# Altium footprint library Header_254.PcbLib: 78 footprints (part 5 of 9)
Each footprint in its own frame and in the unit in brackets; x right, y up, seen from the top. Pads: shape width x height; smd on the part's side, far side on the other; paste and mask are expansions set on the pad; w line width, h text height; cw(c..) or ccw(c..) is an arc to the next point about the centre after c.
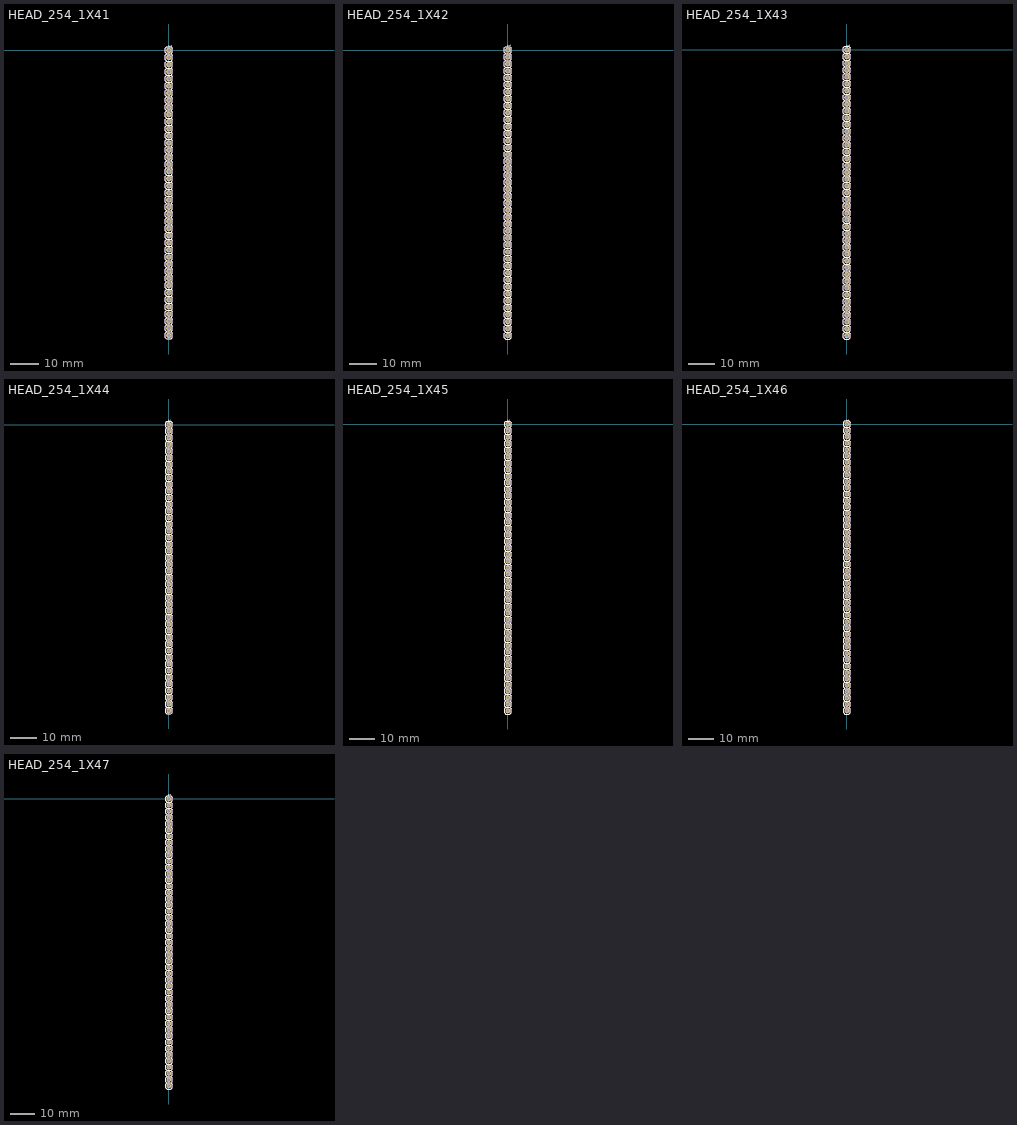
[diagram p4: the footprints below, top view; thin cyan lines are the x and y axes]

## HEAD_254_1X41 [mm] "Header 2.54mm 1x41"
pads (41):
  round 2 hole 1: 1(0,0) 2(0,-2.54) 3(0,-5.08) 4(0,-7.62) 5(0,-10.16) 6(0,-12.7) 7(0,-15.24) 8(0,-17.78) 9(0,-20.32) 10(0,-22.86) 11(0,-25.4) 12(0,-27.94) 13(0,-30.48) 14(0,-33.02) 15(0,-35.56) 16(0,-38.1) 17(0,-40.64) 18(0,-43.18) 19(0,-45.72) 20(0,-48.26) 21(0,-50.8) 22(0,-53.34) 23(0,-55.88) 24(0,-58.42) 25(0,-60.96) 26(0,-63.5) 27(0,-66.04) 28(0,-68.58) 29(0,-71.12) 30(0,-73.66) 31(0,-76.2) 32(0,-78.74) 33(0,-81.28) 34(0,-83.82) 35(0,-86.36) 36(0,-88.9) 37(0,-91.44) 38(0,-93.98) 39(0,-96.52) 40(0,-99.06) 41(0,-101.6)
Top Overlay:
  drawing of 288 lines, arcs and shapes, not listed
  text "1" at -0.642,2.036 h2
Bottom Overlay:
  text "1" at -0.642,1.264 h2
Top Assembly:
  drawing of 288 lines, arcs and shapes, not listed
3D body: height 10, standoff -3, extent -0.35,-101.95 0.35,-101.25
3D body: height 2, standoff 0, extent -1.27,-102.87 1.27,-100.33
3D body: height 10, standoff -3, extent -0.35,-99.41 0.35,-98.71
3D body: height 2, standoff 0, extent -1.27,-100.33 1.27,-97.79
3D body: height 10, standoff -3, extent -0.35,-96.87 0.35,-96.17
3D body: height 2, standoff 0, extent -1.27,-97.79 1.27,-95.25
3D body: height 10, standoff -3, extent -0.35,-94.33 0.35,-93.63
3D body: height 2, standoff 0, extent -1.27,-95.25 1.27,-92.71
3D body: height 10, standoff -3, extent -0.35,-91.79 0.35,-91.09
3D body: height 2, standoff 0, extent -1.27,-92.71 1.27,-90.17
3D body: height 10, standoff -3, extent -0.35,-89.25 0.35,-88.55
3D body: height 2, standoff 0, extent -1.27,-90.17 1.27,-87.63
3D body: height 10, standoff -3, extent -0.35,-86.71 0.35,-86.01
3D body: height 2, standoff 0, extent -1.27,-87.63 1.27,-85.09
3D body: height 10, standoff -3, extent -0.35,-84.17 0.35,-83.47
3D body: height 2, standoff 0, extent -1.27,-85.09 1.27,-82.55
3D body: height 10, standoff -3, extent -0.35,-81.63 0.35,-80.93
3D body: height 2, standoff 0, extent -1.27,-82.55 1.27,-80.01
3D body: height 10, standoff -3, extent -0.35,-79.09 0.35,-78.39
3D body: height 2, standoff 0, extent -1.27,-80.01 1.27,-77.47
3D body: height 10, standoff -3, extent -0.35,-76.55 0.35,-75.85
3D body: height 2, standoff 0, extent -1.27,-77.47 1.27,-74.93
3D body: height 10, standoff -3, extent -0.35,-71.47 0.35,-70.77
3D body: height 2, standoff 0, extent -1.27,-72.39 1.27,-69.85
3D body: height 10, standoff -3, extent -0.35,-68.93 0.35,-68.23
3D body: height 2, standoff 0, extent -1.27,-69.85 1.27,-67.31
3D body: height 10, standoff -3, extent -0.35,-61.31 0.35,-60.61
3D body: height 2, standoff 0, extent -1.27,-62.23 1.27,-59.69
3D body: height 10, standoff -3, extent -0.35,-56.23 0.35,-55.53
3D body: height 2, standoff 0, extent -1.27,-57.15 1.27,-54.61
3D body: height 10, standoff -3, extent -0.35,-53.69 0.35,-52.99
3D body: height 2, standoff 0, extent -1.27,-54.61 1.27,-52.07
3D body: height 10, standoff -3, extent -0.35,-51.15 0.35,-50.45
3D body: height 2, standoff 0, extent -1.27,-52.07 1.27,-49.53
3D body: height 10, standoff -3, extent -0.35,-46.07 0.35,-45.37
3D body: height 2, standoff 0, extent -1.27,-46.99 1.27,-44.45
3D body: height 10, standoff -3, extent -0.35,-40.99 0.35,-40.29
3D body: height 2, standoff 0, extent -1.27,-41.91 1.27,-39.37
3D body: height 10, standoff -3, extent -0.35,-33.37 0.35,-32.67
3D body: height 2, standoff 0, extent -1.27,-34.29 1.27,-31.75
3D body: height 10, standoff -3, extent -0.35,-23.21 0.35,-22.51
3D body: height 2, standoff 0, extent -1.27,-24.13 1.27,-21.59
3D body: height 10, standoff -3, extent -0.35,-18.13 0.35,-17.43
3D body: height 2, standoff 0, extent -1.27,-19.05 1.27,-16.51
3D body: height 10, standoff -3, extent -0.35,-15.59 0.35,-14.89
3D body: height 2, standoff 0, extent -1.27,-16.51 1.27,-13.97
3D body: height 10, standoff -3, extent -0.35,-13.05 0.35,-12.35
3D body: height 2, standoff 0, extent -1.27,-13.97 1.27,-11.43
3D body: height 10, standoff -3, extent -0.35,-10.51 0.35,-9.81
3D body: height 2, standoff 0, extent -1.27,-11.43 1.27,-8.89
3D body: height 10, standoff -3, extent -0.35,-5.43 0.35,-4.73
3D body: height 2, standoff 0, extent -1.27,-6.35 1.27,-3.81
3D body: height 10, standoff -3, extent -0.35,-2.89 0.35,-2.19
3D body: height 2, standoff 0, extent -1.27,-3.81 1.27,-1.27
3D body: height 10, standoff -3, extent -0.35,-0.35 0.35,0.35
3D body: height 2, standoff 0, extent -1.27,-1.27 1.27,1.27
3D body: height 10, standoff -3, extent -0.35,-7.97 0.35,-7.27
3D body: height 2, standoff 0, extent -1.27,-8.89 1.27,-6.35
3D body: height 10, standoff -3, extent -0.35,-20.67 0.35,-19.97
3D body: height 2, standoff 0, extent -1.27,-21.59 1.27,-19.05
3D body: height 10, standoff -3, extent -0.35,-25.75 0.35,-25.05
3D body: height 2, standoff 0, extent -1.27,-26.67 1.27,-24.13
3D body: height 10, standoff -3, extent -0.35,-28.29 0.35,-27.59
3D body: height 2, standoff 0, extent -1.27,-29.21 1.27,-26.67
3D body: height 10, standoff -3, extent -0.35,-30.83 0.35,-30.13
3D body: height 2, standoff 0, extent -1.27,-31.75 1.27,-29.21
3D body: height 10, standoff -3, extent -0.35,-35.91 0.35,-35.21
3D body: height 2, standoff 0, extent -1.27,-36.83 1.27,-34.29
3D body: height 10, standoff -3, extent -0.35,-38.45 0.35,-37.75
3D body: height 2, standoff 0, extent -1.27,-39.37 1.27,-36.83
3D body: height 10, standoff -3, extent -0.35,-43.53 0.35,-42.83
3D body: height 2, standoff 0, extent -1.27,-44.45 1.27,-41.91
3D body: height 10, standoff -3, extent -0.35,-48.61 0.35,-47.91
3D body: height 2, standoff 0, extent -1.27,-49.53 1.27,-46.99
3D body: height 10, standoff -3, extent -0.35,-58.77 0.35,-58.07
3D body: height 2, standoff 0, extent -1.27,-59.69 1.27,-57.15
3D body: height 10, standoff -3, extent -0.35,-63.85 0.35,-63.15
3D body: height 2, standoff 0, extent -1.27,-64.77 1.27,-62.23
3D body: height 10, standoff -3, extent -0.35,-66.39 0.35,-65.69
3D body: height 2, standoff 0, extent -1.27,-67.31 1.27,-64.77
3D body: height 10, standoff -3, extent -0.35,-74.01 0.35,-73.31
3D body: height 2, standoff 0, extent -1.27,-74.93 1.27,-72.39

## HEAD_254_1X42 [mm] "Header 2.54mm 1x42"
pads (42):
  round 2 hole 1: 1(0,0) 2(0,-2.54) 3(0,-5.08) 4(0,-7.62) 5(0,-10.16) 6(0,-12.7) 7(0,-15.24) 8(0,-17.78) 9(0,-20.32) 10(0,-22.86) 11(0,-25.4) 12(0,-27.94) 13(0,-30.48) 14(0,-33.02) 15(0,-35.56) 16(0,-38.1) 17(0,-40.64) 18(0,-43.18) 19(0,-45.72) 20(0,-48.26) 21(0,-50.8) 22(0,-53.34) 23(0,-55.88) 24(0,-58.42) 25(0,-60.96) 26(0,-63.5) 27(0,-66.04) 28(0,-68.58) 29(0,-71.12) 30(0,-73.66) 31(0,-76.2) 32(0,-78.74) 33(0,-81.28) 34(0,-83.82) 35(0,-86.36) 36(0,-88.9) 37(0,-91.44) 38(0,-93.98) 39(0,-96.52) 40(0,-99.06) 41(0,-101.6) 42(0,-104.14)
Top Overlay:
  drawing of 295 lines, arcs and shapes, not listed
  text "1" at -0.642,2.036 h2
Bottom Overlay:
  text "1" at -0.642,1.264 h2
Top Assembly:
  drawing of 295 lines, arcs and shapes, not listed
3D body: height 2, standoff 0, extent -1.27,-74.93 1.27,-72.39
3D body: height 10, standoff -3, extent -0.35,-74.01 0.35,-73.31
3D body: height 2, standoff 0, extent -1.27,-67.31 1.27,-64.77
3D body: height 10, standoff -3, extent -0.35,-66.39 0.35,-65.69
3D body: height 2, standoff 0, extent -1.27,-64.77 1.27,-62.23
3D body: height 10, standoff -3, extent -0.35,-63.85 0.35,-63.15
3D body: height 2, standoff 0, extent -1.27,-59.69 1.27,-57.15
3D body: height 10, standoff -3, extent -0.35,-58.77 0.35,-58.07
3D body: height 2, standoff 0, extent -1.27,-49.53 1.27,-46.99
3D body: height 10, standoff -3, extent -0.35,-48.61 0.35,-47.91
3D body: height 2, standoff 0, extent -1.27,-44.45 1.27,-41.91
3D body: height 10, standoff -3, extent -0.35,-43.53 0.35,-42.83
3D body: height 2, standoff 0, extent -1.27,-39.37 1.27,-36.83
3D body: height 10, standoff -3, extent -0.35,-38.45 0.35,-37.75
3D body: height 2, standoff 0, extent -1.27,-36.83 1.27,-34.29
3D body: height 10, standoff -3, extent -0.35,-35.91 0.35,-35.21
3D body: height 2, standoff 0, extent -1.27,-31.75 1.27,-29.21
3D body: height 10, standoff -3, extent -0.35,-30.83 0.35,-30.13
3D body: height 2, standoff 0, extent -1.27,-29.21 1.27,-26.67
3D body: height 10, standoff -3, extent -0.35,-28.29 0.35,-27.59
3D body: height 2, standoff 0, extent -1.27,-26.67 1.27,-24.13
3D body: height 10, standoff -3, extent -0.35,-25.75 0.35,-25.05
3D body: height 2, standoff 0, extent -1.27,-21.59 1.27,-19.05
3D body: height 10, standoff -3, extent -0.35,-20.67 0.35,-19.97
3D body: height 2, standoff 0, extent -1.27,-8.89 1.27,-6.35
3D body: height 10, standoff -3, extent -0.35,-7.97 0.35,-7.27
3D body: height 2, standoff 0, extent -1.27,-1.27 1.27,1.27
3D body: height 10, standoff -3, extent -0.35,-0.35 0.35,0.35
3D body: height 2, standoff 0, extent -1.27,-3.81 1.27,-1.27
3D body: height 10, standoff -3, extent -0.35,-2.89 0.35,-2.19
3D body: height 2, standoff 0, extent -1.27,-6.35 1.27,-3.81
3D body: height 10, standoff -3, extent -0.35,-5.43 0.35,-4.73
3D body: height 2, standoff 0, extent -1.27,-11.43 1.27,-8.89
3D body: height 10, standoff -3, extent -0.35,-10.51 0.35,-9.81
3D body: height 2, standoff 0, extent -1.27,-13.97 1.27,-11.43
3D body: height 10, standoff -3, extent -0.35,-13.05 0.35,-12.35
3D body: height 2, standoff 0, extent -1.27,-16.51 1.27,-13.97
3D body: height 10, standoff -3, extent -0.35,-15.59 0.35,-14.89
3D body: height 2, standoff 0, extent -1.27,-19.05 1.27,-16.51
3D body: height 10, standoff -3, extent -0.35,-18.13 0.35,-17.43
3D body: height 2, standoff 0, extent -1.27,-24.13 1.27,-21.59
3D body: height 10, standoff -3, extent -0.35,-23.21 0.35,-22.51
3D body: height 2, standoff 0, extent -1.27,-34.29 1.27,-31.75
3D body: height 10, standoff -3, extent -0.35,-33.37 0.35,-32.67
3D body: height 2, standoff 0, extent -1.27,-41.91 1.27,-39.37
3D body: height 10, standoff -3, extent -0.35,-40.99 0.35,-40.29
3D body: height 2, standoff 0, extent -1.27,-46.99 1.27,-44.45
3D body: height 10, standoff -3, extent -0.35,-46.07 0.35,-45.37
3D body: height 2, standoff 0, extent -1.27,-52.07 1.27,-49.53
3D body: height 10, standoff -3, extent -0.35,-51.15 0.35,-50.45
3D body: height 2, standoff 0, extent -1.27,-54.61 1.27,-52.07
3D body: height 10, standoff -3, extent -0.35,-53.69 0.35,-52.99
3D body: height 2, standoff 0, extent -1.27,-57.15 1.27,-54.61
3D body: height 10, standoff -3, extent -0.35,-56.23 0.35,-55.53
3D body: height 2, standoff 0, extent -1.27,-62.23 1.27,-59.69
3D body: height 10, standoff -3, extent -0.35,-61.31 0.35,-60.61
3D body: height 2, standoff 0, extent -1.27,-69.85 1.27,-67.31
3D body: height 10, standoff -3, extent -0.35,-68.93 0.35,-68.23
3D body: height 2, standoff 0, extent -1.27,-72.39 1.27,-69.85
3D body: height 10, standoff -3, extent -0.35,-71.47 0.35,-70.77
3D body: height 2, standoff 0, extent -1.27,-77.47 1.27,-74.93
3D body: height 10, standoff -3, extent -0.35,-76.55 0.35,-75.85
3D body: height 2, standoff 0, extent -1.27,-80.01 1.27,-77.47
3D body: height 10, standoff -3, extent -0.35,-79.09 0.35,-78.39
3D body: height 2, standoff 0, extent -1.27,-82.55 1.27,-80.01
3D body: height 10, standoff -3, extent -0.35,-81.63 0.35,-80.93
3D body: height 2, standoff 0, extent -1.27,-85.09 1.27,-82.55
3D body: height 10, standoff -3, extent -0.35,-84.17 0.35,-83.47
3D body: height 2, standoff 0, extent -1.27,-87.63 1.27,-85.09
3D body: height 10, standoff -3, extent -0.35,-86.71 0.35,-86.01
3D body: height 2, standoff 0, extent -1.27,-90.17 1.27,-87.63
3D body: height 10, standoff -3, extent -0.35,-89.25 0.35,-88.55
3D body: height 2, standoff 0, extent -1.27,-92.71 1.27,-90.17
3D body: height 10, standoff -3, extent -0.35,-91.79 0.35,-91.09
3D body: height 2, standoff 0, extent -1.27,-95.25 1.27,-92.71
3D body: height 10, standoff -3, extent -0.35,-94.33 0.35,-93.63
3D body: height 2, standoff 0, extent -1.27,-97.79 1.27,-95.25
3D body: height 10, standoff -3, extent -0.35,-96.87 0.35,-96.17
3D body: height 2, standoff 0, extent -1.27,-100.33 1.27,-97.79
3D body: height 10, standoff -3, extent -0.35,-99.41 0.35,-98.71
3D body: height 2, standoff 0, extent -1.27,-102.87 1.27,-100.33
3D body: height 10, standoff -3, extent -0.35,-101.95 0.35,-101.25
3D body: height 2, standoff 0, extent -1.27,-105.41 1.27,-102.87
3D body: height 10, standoff -3, extent -0.35,-104.49 0.35,-103.79

## HEAD_254_1X43 [mm] "Header 2.54mm 1x43"
pads (43):
  round 2 hole 1: 1(0,0) 2(0,-2.54) 3(0,-5.08) 4(0,-7.62) 5(0,-10.16) 6(0,-12.7) 7(0,-15.24) 8(0,-17.78) 9(0,-20.32) 10(0,-22.86) 11(0,-25.4) 12(0,-27.94) 13(0,-30.48) 14(0,-33.02) 15(0,-35.56) 16(0,-38.1) 17(0,-40.64) 18(0,-43.18) 19(0,-45.72) 20(0,-48.26) 21(0,-50.8) 22(0,-53.34) 23(0,-55.88) 24(0,-58.42) 25(0,-60.96) 26(0,-63.5) 27(0,-66.04) 28(0,-68.58) 29(0,-71.12) 30(0,-73.66) 31(0,-76.2) 32(0,-78.74) 33(0,-81.28) 34(0,-83.82) 35(0,-86.36) 36(0,-88.9) 37(0,-91.44) 38(0,-93.98) 39(0,-96.52) 40(0,-99.06) 41(0,-101.6) 42(0,-104.14) 43(0,-106.68)
Top Overlay:
  drawing of 302 lines, arcs and shapes, not listed
  text "1" at -0.642,2.036 h2
Bottom Overlay:
  text "1" at -0.642,1.264 h2
Top Assembly:
  drawing of 302 lines, arcs and shapes, not listed
3D body: height 2, standoff 0, extent -1.27,-74.93 1.27,-72.39
3D body: height 10, standoff -3, extent -0.35,-74.01 0.35,-73.31
3D body: height 2, standoff 0, extent -1.27,-67.31 1.27,-64.77
3D body: height 10, standoff -3, extent -0.35,-66.39 0.35,-65.69
3D body: height 2, standoff 0, extent -1.27,-64.77 1.27,-62.23
3D body: height 10, standoff -3, extent -0.35,-63.85 0.35,-63.15
3D body: height 2, standoff 0, extent -1.27,-59.69 1.27,-57.15
3D body: height 10, standoff -3, extent -0.35,-58.77 0.35,-58.07
3D body: height 2, standoff 0, extent -1.27,-49.53 1.27,-46.99
3D body: height 10, standoff -3, extent -0.35,-48.61 0.35,-47.91
3D body: height 2, standoff 0, extent -1.27,-44.45 1.27,-41.91
3D body: height 10, standoff -3, extent -0.35,-43.53 0.35,-42.83
3D body: height 2, standoff 0, extent -1.27,-39.37 1.27,-36.83
3D body: height 10, standoff -3, extent -0.35,-38.45 0.35,-37.75
3D body: height 2, standoff 0, extent -1.27,-36.83 1.27,-34.29
3D body: height 10, standoff -3, extent -0.35,-35.91 0.35,-35.21
3D body: height 2, standoff 0, extent -1.27,-31.75 1.27,-29.21
3D body: height 10, standoff -3, extent -0.35,-30.83 0.35,-30.13
3D body: height 2, standoff 0, extent -1.27,-29.21 1.27,-26.67
3D body: height 10, standoff -3, extent -0.35,-28.29 0.35,-27.59
3D body: height 2, standoff 0, extent -1.27,-26.67 1.27,-24.13
3D body: height 10, standoff -3, extent -0.35,-25.75 0.35,-25.05
3D body: height 2, standoff 0, extent -1.27,-21.59 1.27,-19.05
3D body: height 10, standoff -3, extent -0.35,-20.67 0.35,-19.97
3D body: height 2, standoff 0, extent -1.27,-8.89 1.27,-6.35
3D body: height 10, standoff -3, extent -0.35,-7.97 0.35,-7.27
3D body: height 2, standoff 0, extent -1.27,-1.27 1.27,1.27
3D body: height 10, standoff -3, extent -0.35,-0.35 0.35,0.35
3D body: height 2, standoff 0, extent -1.27,-3.81 1.27,-1.27
3D body: height 10, standoff -3, extent -0.35,-2.89 0.35,-2.19
3D body: height 2, standoff 0, extent -1.27,-6.35 1.27,-3.81
3D body: height 10, standoff -3, extent -0.35,-5.43 0.35,-4.73
3D body: height 2, standoff 0, extent -1.27,-11.43 1.27,-8.89
3D body: height 10, standoff -3, extent -0.35,-10.51 0.35,-9.81
3D body: height 2, standoff 0, extent -1.27,-13.97 1.27,-11.43
3D body: height 10, standoff -3, extent -0.35,-13.05 0.35,-12.35
3D body: height 2, standoff 0, extent -1.27,-16.51 1.27,-13.97
3D body: height 10, standoff -3, extent -0.35,-15.59 0.35,-14.89
3D body: height 2, standoff 0, extent -1.27,-19.05 1.27,-16.51
3D body: height 10, standoff -3, extent -0.35,-18.13 0.35,-17.43
3D body: height 2, standoff 0, extent -1.27,-24.13 1.27,-21.59
3D body: height 10, standoff -3, extent -0.35,-23.21 0.35,-22.51
3D body: height 2, standoff 0, extent -1.27,-34.29 1.27,-31.75
3D body: height 10, standoff -3, extent -0.35,-33.37 0.35,-32.67
3D body: height 2, standoff 0, extent -1.27,-41.91 1.27,-39.37
3D body: height 10, standoff -3, extent -0.35,-40.99 0.35,-40.29
3D body: height 2, standoff 0, extent -1.27,-46.99 1.27,-44.45
3D body: height 10, standoff -3, extent -0.35,-46.07 0.35,-45.37
3D body: height 2, standoff 0, extent -1.27,-52.07 1.27,-49.53
3D body: height 10, standoff -3, extent -0.35,-51.15 0.35,-50.45
3D body: height 2, standoff 0, extent -1.27,-54.61 1.27,-52.07
3D body: height 10, standoff -3, extent -0.35,-53.69 0.35,-52.99
3D body: height 2, standoff 0, extent -1.27,-57.15 1.27,-54.61
3D body: height 10, standoff -3, extent -0.35,-56.23 0.35,-55.53
3D body: height 2, standoff 0, extent -1.27,-62.23 1.27,-59.69
3D body: height 10, standoff -3, extent -0.35,-61.31 0.35,-60.61
3D body: height 2, standoff 0, extent -1.27,-69.85 1.27,-67.31
3D body: height 10, standoff -3, extent -0.35,-68.93 0.35,-68.23
3D body: height 2, standoff 0, extent -1.27,-72.39 1.27,-69.85
3D body: height 10, standoff -3, extent -0.35,-71.47 0.35,-70.77
3D body: height 2, standoff 0, extent -1.27,-77.47 1.27,-74.93
3D body: height 10, standoff -3, extent -0.35,-76.55 0.35,-75.85
3D body: height 2, standoff 0, extent -1.27,-80.01 1.27,-77.47
3D body: height 10, standoff -3, extent -0.35,-79.09 0.35,-78.39
3D body: height 2, standoff 0, extent -1.27,-82.55 1.27,-80.01
3D body: height 10, standoff -3, extent -0.35,-81.63 0.35,-80.93
3D body: height 2, standoff 0, extent -1.27,-85.09 1.27,-82.55
3D body: height 10, standoff -3, extent -0.35,-84.17 0.35,-83.47
3D body: height 2, standoff 0, extent -1.27,-87.63 1.27,-85.09
3D body: height 10, standoff -3, extent -0.35,-86.71 0.35,-86.01
3D body: height 2, standoff 0, extent -1.27,-90.17 1.27,-87.63
3D body: height 10, standoff -3, extent -0.35,-89.25 0.35,-88.55
3D body: height 2, standoff 0, extent -1.27,-92.71 1.27,-90.17
3D body: height 10, standoff -3, extent -0.35,-91.79 0.35,-91.09
3D body: height 2, standoff 0, extent -1.27,-95.25 1.27,-92.71
3D body: height 10, standoff -3, extent -0.35,-94.33 0.35,-93.63
3D body: height 2, standoff 0, extent -1.27,-97.79 1.27,-95.25
3D body: height 10, standoff -3, extent -0.35,-96.87 0.35,-96.17
3D body: height 2, standoff 0, extent -1.27,-100.33 1.27,-97.79
3D body: height 10, standoff -3, extent -0.35,-99.41 0.35,-98.71
3D body: height 2, standoff 0, extent -1.27,-102.87 1.27,-100.33
3D body: height 10, standoff -3, extent -0.35,-101.95 0.35,-101.25
3D body: height 2, standoff 0, extent -1.27,-105.41 1.27,-102.87
3D body: height 10, standoff -3, extent -0.35,-104.49 0.35,-103.79
3D body: height 2, standoff 0, extent -1.27,-107.95 1.27,-105.41
3D body: height 10, standoff -3, extent -0.35,-107.03 0.35,-106.33

## HEAD_254_1X44 [mm] "Header 2.54mm 1x44"
pads (44):
  round 2 hole 1: 1(0,0) 2(0,-2.54) 3(0,-5.08) 4(0,-7.62) 5(0,-10.16) 6(0,-12.7) 7(0,-15.24) 8(0,-17.78) 9(0,-20.32) 10(0,-22.86) 11(0,-25.4) 12(0,-27.94) 13(0,-30.48) 14(0,-33.02) 15(0,-35.56) 16(0,-38.1) 17(0,-40.64) 18(0,-43.18) 19(0,-45.72) 20(0,-48.26) 21(0,-50.8) 22(0,-53.34) 23(0,-55.88) 24(0,-58.42) 25(0,-60.96) 26(0,-63.5) 27(0,-66.04) 28(0,-68.58) 29(0,-71.12) 30(0,-73.66) 31(0,-76.2) 32(0,-78.74) 33(0,-81.28) 34(0,-83.82) 35(0,-86.36) 36(0,-88.9) 37(0,-91.44) 38(0,-93.98) 39(0,-96.52) 40(0,-99.06) 41(0,-101.6) 42(0,-104.14) 43(0,-106.68) 44(0,-109.22)
Top Overlay:
  drawing of 309 lines, arcs and shapes, not listed
  text "1" at -0.642,2.036 h2
Bottom Overlay:
  text "1" at -0.642,1.264 h2
Top Assembly:
  drawing of 309 lines, arcs and shapes, not listed
3D body: height 10, standoff -3, extent -0.35,-109.57 0.35,-108.87
3D body: height 2, standoff 0, extent -1.27,-110.49 1.27,-107.95
3D body: height 10, standoff -3, extent -0.35,-107.03 0.35,-106.33
3D body: height 2, standoff 0, extent -1.27,-107.95 1.27,-105.41
3D body: height 10, standoff -3, extent -0.35,-104.49 0.35,-103.79
3D body: height 2, standoff 0, extent -1.27,-105.41 1.27,-102.87
3D body: height 10, standoff -3, extent -0.35,-101.95 0.35,-101.25
3D body: height 2, standoff 0, extent -1.27,-102.87 1.27,-100.33
3D body: height 10, standoff -3, extent -0.35,-99.41 0.35,-98.71
3D body: height 2, standoff 0, extent -1.27,-100.33 1.27,-97.79
3D body: height 10, standoff -3, extent -0.35,-96.87 0.35,-96.17
3D body: height 2, standoff 0, extent -1.27,-97.79 1.27,-95.25
3D body: height 10, standoff -3, extent -0.35,-94.33 0.35,-93.63
3D body: height 2, standoff 0, extent -1.27,-95.25 1.27,-92.71
3D body: height 10, standoff -3, extent -0.35,-91.79 0.35,-91.09
3D body: height 2, standoff 0, extent -1.27,-92.71 1.27,-90.17
3D body: height 10, standoff -3, extent -0.35,-89.25 0.35,-88.55
3D body: height 2, standoff 0, extent -1.27,-90.17 1.27,-87.63
3D body: height 10, standoff -3, extent -0.35,-86.71 0.35,-86.01
3D body: height 2, standoff 0, extent -1.27,-87.63 1.27,-85.09
3D body: height 10, standoff -3, extent -0.35,-84.17 0.35,-83.47
3D body: height 2, standoff 0, extent -1.27,-85.09 1.27,-82.55
3D body: height 10, standoff -3, extent -0.35,-81.63 0.35,-80.93
3D body: height 2, standoff 0, extent -1.27,-82.55 1.27,-80.01
3D body: height 10, standoff -3, extent -0.35,-79.09 0.35,-78.39
3D body: height 2, standoff 0, extent -1.27,-80.01 1.27,-77.47
3D body: height 10, standoff -3, extent -0.35,-76.55 0.35,-75.85
3D body: height 2, standoff 0, extent -1.27,-77.47 1.27,-74.93
3D body: height 10, standoff -3, extent -0.35,-71.47 0.35,-70.77
3D body: height 2, standoff 0, extent -1.27,-72.39 1.27,-69.85
3D body: height 10, standoff -3, extent -0.35,-68.93 0.35,-68.23
3D body: height 2, standoff 0, extent -1.27,-69.85 1.27,-67.31
3D body: height 10, standoff -3, extent -0.35,-61.31 0.35,-60.61
3D body: height 2, standoff 0, extent -1.27,-62.23 1.27,-59.69
3D body: height 10, standoff -3, extent -0.35,-56.23 0.35,-55.53
3D body: height 2, standoff 0, extent -1.27,-57.15 1.27,-54.61
3D body: height 10, standoff -3, extent -0.35,-53.69 0.35,-52.99
3D body: height 2, standoff 0, extent -1.27,-54.61 1.27,-52.07
3D body: height 10, standoff -3, extent -0.35,-51.15 0.35,-50.45
3D body: height 2, standoff 0, extent -1.27,-52.07 1.27,-49.53
3D body: height 10, standoff -3, extent -0.35,-46.07 0.35,-45.37
3D body: height 2, standoff 0, extent -1.27,-46.99 1.27,-44.45
3D body: height 10, standoff -3, extent -0.35,-40.99 0.35,-40.29
3D body: height 2, standoff 0, extent -1.27,-41.91 1.27,-39.37
3D body: height 10, standoff -3, extent -0.35,-33.37 0.35,-32.67
3D body: height 2, standoff 0, extent -1.27,-34.29 1.27,-31.75
3D body: height 10, standoff -3, extent -0.35,-23.21 0.35,-22.51
3D body: height 2, standoff 0, extent -1.27,-24.13 1.27,-21.59
3D body: height 10, standoff -3, extent -0.35,-18.13 0.35,-17.43
3D body: height 2, standoff 0, extent -1.27,-19.05 1.27,-16.51
3D body: height 10, standoff -3, extent -0.35,-15.59 0.35,-14.89
3D body: height 2, standoff 0, extent -1.27,-16.51 1.27,-13.97
3D body: height 10, standoff -3, extent -0.35,-13.05 0.35,-12.35
3D body: height 2, standoff 0, extent -1.27,-13.97 1.27,-11.43
3D body: height 10, standoff -3, extent -0.35,-10.51 0.35,-9.81
3D body: height 2, standoff 0, extent -1.27,-11.43 1.27,-8.89
3D body: height 10, standoff -3, extent -0.35,-5.43 0.35,-4.73
3D body: height 2, standoff 0, extent -1.27,-6.35 1.27,-3.81
3D body: height 10, standoff -3, extent -0.35,-2.89 0.35,-2.19
3D body: height 2, standoff 0, extent -1.27,-3.81 1.27,-1.27
3D body: height 10, standoff -3, extent -0.35,-0.35 0.35,0.35
3D body: height 2, standoff 0, extent -1.27,-1.27 1.27,1.27
3D body: height 10, standoff -3, extent -0.35,-7.97 0.35,-7.27
3D body: height 2, standoff 0, extent -1.27,-8.89 1.27,-6.35
3D body: height 10, standoff -3, extent -0.35,-20.67 0.35,-19.97
3D body: height 2, standoff 0, extent -1.27,-21.59 1.27,-19.05
3D body: height 10, standoff -3, extent -0.35,-25.75 0.35,-25.05
3D body: height 2, standoff 0, extent -1.27,-26.67 1.27,-24.13
3D body: height 10, standoff -3, extent -0.35,-28.29 0.35,-27.59
3D body: height 2, standoff 0, extent -1.27,-29.21 1.27,-26.67
3D body: height 10, standoff -3, extent -0.35,-30.83 0.35,-30.13
3D body: height 2, standoff 0, extent -1.27,-31.75 1.27,-29.21
3D body: height 10, standoff -3, extent -0.35,-35.91 0.35,-35.21
3D body: height 2, standoff 0, extent -1.27,-36.83 1.27,-34.29
3D body: height 10, standoff -3, extent -0.35,-38.45 0.35,-37.75
3D body: height 2, standoff 0, extent -1.27,-39.37 1.27,-36.83
3D body: height 10, standoff -3, extent -0.35,-43.53 0.35,-42.83
3D body: height 2, standoff 0, extent -1.27,-44.45 1.27,-41.91
3D body: height 10, standoff -3, extent -0.35,-48.61 0.35,-47.91
3D body: height 2, standoff 0, extent -1.27,-49.53 1.27,-46.99
3D body: height 10, standoff -3, extent -0.35,-58.77 0.35,-58.07
3D body: height 2, standoff 0, extent -1.27,-59.69 1.27,-57.15
3D body: height 10, standoff -3, extent -0.35,-63.85 0.35,-63.15
3D body: height 2, standoff 0, extent -1.27,-64.77 1.27,-62.23
3D body: height 10, standoff -3, extent -0.35,-66.39 0.35,-65.69
3D body: height 2, standoff 0, extent -1.27,-67.31 1.27,-64.77
3D body: height 10, standoff -3, extent -0.35,-74.01 0.35,-73.31
3D body: height 2, standoff 0, extent -1.27,-74.93 1.27,-72.39

## HEAD_254_1X45 [mm] "Header 2.54mm 1x45"
pads (45):
  round 2 hole 1: 1(0,0) 2(0,-2.54) 3(0,-5.08) 4(0,-7.62) 5(0,-10.16) 6(0,-12.7) 7(0,-15.24) 8(0,-17.78) 9(0,-20.32) 10(0,-22.86) 11(0,-25.4) 12(0,-27.94) 13(0,-30.48) 14(0,-33.02) 15(0,-35.56) 16(0,-38.1) 17(0,-40.64) 18(0,-43.18) 19(0,-45.72) 20(0,-48.26) 21(0,-50.8) 22(0,-53.34) 23(0,-55.88) 24(0,-58.42) 25(0,-60.96) 26(0,-63.5) 27(0,-66.04) 28(0,-68.58) 29(0,-71.12) 30(0,-73.66) 31(0,-76.2) 32(0,-78.74) 33(0,-81.28) 34(0,-83.82) 35(0,-86.36) 36(0,-88.9) 37(0,-91.44) 38(0,-93.98) 39(0,-96.52) 40(0,-99.06) 41(0,-101.6) 42(0,-104.14) 43(0,-106.68) 44(0,-109.22) 45(0,-111.76)
Top Overlay:
  drawing of 316 lines, arcs and shapes, not listed
  text "1" at -0.642,2.036 h2
Bottom Overlay:
  text "1" at -0.642,1.264 h2
Top Assembly:
  drawing of 316 lines, arcs and shapes, not listed
3D body: height 10, standoff -3, extent -0.35,-112.11 0.35,-111.41
3D body: height 2, standoff 0, extent -1.27,-113.03 1.27,-110.49
3D body: height 10, standoff -3, extent -0.35,-109.57 0.35,-108.87
3D body: height 2, standoff 0, extent -1.27,-110.49 1.27,-107.95
3D body: height 10, standoff -3, extent -0.35,-107.03 0.35,-106.33
3D body: height 2, standoff 0, extent -1.27,-107.95 1.27,-105.41
3D body: height 10, standoff -3, extent -0.35,-104.49 0.35,-103.79
3D body: height 2, standoff 0, extent -1.27,-105.41 1.27,-102.87
3D body: height 10, standoff -3, extent -0.35,-101.95 0.35,-101.25
3D body: height 2, standoff 0, extent -1.27,-102.87 1.27,-100.33
3D body: height 10, standoff -3, extent -0.35,-99.41 0.35,-98.71
3D body: height 2, standoff 0, extent -1.27,-100.33 1.27,-97.79
3D body: height 10, standoff -3, extent -0.35,-96.87 0.35,-96.17
3D body: height 2, standoff 0, extent -1.27,-97.79 1.27,-95.25
3D body: height 10, standoff -3, extent -0.35,-94.33 0.35,-93.63
3D body: height 2, standoff 0, extent -1.27,-95.25 1.27,-92.71
3D body: height 10, standoff -3, extent -0.35,-91.79 0.35,-91.09
3D body: height 2, standoff 0, extent -1.27,-92.71 1.27,-90.17
3D body: height 10, standoff -3, extent -0.35,-89.25 0.35,-88.55
3D body: height 2, standoff 0, extent -1.27,-90.17 1.27,-87.63
3D body: height 10, standoff -3, extent -0.35,-86.71 0.35,-86.01
3D body: height 2, standoff 0, extent -1.27,-87.63 1.27,-85.09
3D body: height 10, standoff -3, extent -0.35,-84.17 0.35,-83.47
3D body: height 2, standoff 0, extent -1.27,-85.09 1.27,-82.55
3D body: height 10, standoff -3, extent -0.35,-81.63 0.35,-80.93
3D body: height 2, standoff 0, extent -1.27,-82.55 1.27,-80.01
3D body: height 10, standoff -3, extent -0.35,-79.09 0.35,-78.39
3D body: height 2, standoff 0, extent -1.27,-80.01 1.27,-77.47
3D body: height 10, standoff -3, extent -0.35,-76.55 0.35,-75.85
3D body: height 2, standoff 0, extent -1.27,-77.47 1.27,-74.93
3D body: height 10, standoff -3, extent -0.35,-71.47 0.35,-70.77
3D body: height 2, standoff 0, extent -1.27,-72.39 1.27,-69.85
3D body: height 10, standoff -3, extent -0.35,-68.93 0.35,-68.23
3D body: height 2, standoff 0, extent -1.27,-69.85 1.27,-67.31
3D body: height 10, standoff -3, extent -0.35,-61.31 0.35,-60.61
3D body: height 2, standoff 0, extent -1.27,-62.23 1.27,-59.69
3D body: height 10, standoff -3, extent -0.35,-56.23 0.35,-55.53
3D body: height 2, standoff 0, extent -1.27,-57.15 1.27,-54.61
3D body: height 10, standoff -3, extent -0.35,-53.69 0.35,-52.99
3D body: height 2, standoff 0, extent -1.27,-54.61 1.27,-52.07
3D body: height 10, standoff -3, extent -0.35,-51.15 0.35,-50.45
3D body: height 2, standoff 0, extent -1.27,-52.07 1.27,-49.53
3D body: height 10, standoff -3, extent -0.35,-46.07 0.35,-45.37
3D body: height 2, standoff 0, extent -1.27,-46.99 1.27,-44.45
3D body: height 10, standoff -3, extent -0.35,-40.99 0.35,-40.29
3D body: height 2, standoff 0, extent -1.27,-41.91 1.27,-39.37
3D body: height 10, standoff -3, extent -0.35,-33.37 0.35,-32.67
3D body: height 2, standoff 0, extent -1.27,-34.29 1.27,-31.75
3D body: height 10, standoff -3, extent -0.35,-23.21 0.35,-22.51
3D body: height 2, standoff 0, extent -1.27,-24.13 1.27,-21.59
3D body: height 10, standoff -3, extent -0.35,-18.13 0.35,-17.43
3D body: height 2, standoff 0, extent -1.27,-19.05 1.27,-16.51
3D body: height 10, standoff -3, extent -0.35,-15.59 0.35,-14.89
3D body: height 2, standoff 0, extent -1.27,-16.51 1.27,-13.97
3D body: height 10, standoff -3, extent -0.35,-13.05 0.35,-12.35
3D body: height 2, standoff 0, extent -1.27,-13.97 1.27,-11.43
3D body: height 10, standoff -3, extent -0.35,-10.51 0.35,-9.81
3D body: height 2, standoff 0, extent -1.27,-11.43 1.27,-8.89
3D body: height 10, standoff -3, extent -0.35,-5.43 0.35,-4.73
3D body: height 2, standoff 0, extent -1.27,-6.35 1.27,-3.81
3D body: height 10, standoff -3, extent -0.35,-2.89 0.35,-2.19
3D body: height 2, standoff 0, extent -1.27,-3.81 1.27,-1.27
3D body: height 10, standoff -3, extent -0.35,-0.35 0.35,0.35
3D body: height 2, standoff 0, extent -1.27,-1.27 1.27,1.27
3D body: height 10, standoff -3, extent -0.35,-7.97 0.35,-7.27
3D body: height 2, standoff 0, extent -1.27,-8.89 1.27,-6.35
3D body: height 10, standoff -3, extent -0.35,-20.67 0.35,-19.97
3D body: height 2, standoff 0, extent -1.27,-21.59 1.27,-19.05
3D body: height 10, standoff -3, extent -0.35,-25.75 0.35,-25.05
3D body: height 2, standoff 0, extent -1.27,-26.67 1.27,-24.13
3D body: height 10, standoff -3, extent -0.35,-28.29 0.35,-27.59
3D body: height 2, standoff 0, extent -1.27,-29.21 1.27,-26.67
3D body: height 10, standoff -3, extent -0.35,-30.83 0.35,-30.13
3D body: height 2, standoff 0, extent -1.27,-31.75 1.27,-29.21
3D body: height 10, standoff -3, extent -0.35,-35.91 0.35,-35.21
3D body: height 2, standoff 0, extent -1.27,-36.83 1.27,-34.29
3D body: height 10, standoff -3, extent -0.35,-38.45 0.35,-37.75
3D body: height 2, standoff 0, extent -1.27,-39.37 1.27,-36.83
3D body: height 10, standoff -3, extent -0.35,-43.53 0.35,-42.83
3D body: height 2, standoff 0, extent -1.27,-44.45 1.27,-41.91
3D body: height 10, standoff -3, extent -0.35,-48.61 0.35,-47.91
3D body: height 2, standoff 0, extent -1.27,-49.53 1.27,-46.99
3D body: height 10, standoff -3, extent -0.35,-58.77 0.35,-58.07
3D body: height 2, standoff 0, extent -1.27,-59.69 1.27,-57.15
3D body: height 10, standoff -3, extent -0.35,-63.85 0.35,-63.15
3D body: height 2, standoff 0, extent -1.27,-64.77 1.27,-62.23
3D body: height 10, standoff -3, extent -0.35,-66.39 0.35,-65.69
3D body: height 2, standoff 0, extent -1.27,-67.31 1.27,-64.77
3D body: height 10, standoff -3, extent -0.35,-74.01 0.35,-73.31
3D body: height 2, standoff 0, extent -1.27,-74.93 1.27,-72.39

## HEAD_254_1X46 [mm] "Header 2.54mm 1x46"
pads (46):
  round 2 hole 1: 1(0,0) 2(0,-2.54) 3(0,-5.08) 4(0,-7.62) 5(0,-10.16) 6(0,-12.7) 7(0,-15.24) 8(0,-17.78) 9(0,-20.32) 10(0,-22.86) 11(0,-25.4) 12(0,-27.94) 13(0,-30.48) 14(0,-33.02) 15(0,-35.56) 16(0,-38.1) 17(0,-40.64) 18(0,-43.18) 19(0,-45.72) 20(0,-48.26) 21(0,-50.8) 22(0,-53.34) 23(0,-55.88) 24(0,-58.42) 25(0,-60.96) 26(0,-63.5) 27(0,-66.04) 28(0,-68.58) 29(0,-71.12) 30(0,-73.66) 31(0,-76.2) 32(0,-78.74) 33(0,-81.28) 34(0,-83.82) 35(0,-86.36) 36(0,-88.9) 37(0,-91.44) 38(0,-93.98) 39(0,-96.52) 40(0,-99.06) 41(0,-101.6) 42(0,-104.14) 43(0,-106.68) 44(0,-109.22) 45(0,-111.76) 46(0,-114.3)
Top Overlay:
  drawing of 323 lines, arcs and shapes, not listed
  text "1" at -0.642,2.036 h2
Bottom Overlay:
  text "1" at -0.642,1.264 h2
Top Assembly:
  drawing of 323 lines, arcs and shapes, not listed
3D body: height 2, standoff 0, extent -1.27,-74.93 1.27,-72.39
3D body: height 10, standoff -3, extent -0.35,-74.01 0.35,-73.31
3D body: height 2, standoff 0, extent -1.27,-67.31 1.27,-64.77
3D body: height 10, standoff -3, extent -0.35,-66.39 0.35,-65.69
3D body: height 2, standoff 0, extent -1.27,-64.77 1.27,-62.23
3D body: height 10, standoff -3, extent -0.35,-63.85 0.35,-63.15
3D body: height 2, standoff 0, extent -1.27,-59.69 1.27,-57.15
3D body: height 10, standoff -3, extent -0.35,-58.77 0.35,-58.07
3D body: height 2, standoff 0, extent -1.27,-49.53 1.27,-46.99
3D body: height 10, standoff -3, extent -0.35,-48.61 0.35,-47.91
3D body: height 2, standoff 0, extent -1.27,-44.45 1.27,-41.91
3D body: height 10, standoff -3, extent -0.35,-43.53 0.35,-42.83
3D body: height 2, standoff 0, extent -1.27,-39.37 1.27,-36.83
3D body: height 10, standoff -3, extent -0.35,-38.45 0.35,-37.75
3D body: height 2, standoff 0, extent -1.27,-36.83 1.27,-34.29
3D body: height 10, standoff -3, extent -0.35,-35.91 0.35,-35.21
3D body: height 2, standoff 0, extent -1.27,-31.75 1.27,-29.21
3D body: height 10, standoff -3, extent -0.35,-30.83 0.35,-30.13
3D body: height 2, standoff 0, extent -1.27,-29.21 1.27,-26.67
3D body: height 10, standoff -3, extent -0.35,-28.29 0.35,-27.59
3D body: height 2, standoff 0, extent -1.27,-26.67 1.27,-24.13
3D body: height 10, standoff -3, extent -0.35,-25.75 0.35,-25.05
3D body: height 2, standoff 0, extent -1.27,-21.59 1.27,-19.05
3D body: height 10, standoff -3, extent -0.35,-20.67 0.35,-19.97
3D body: height 2, standoff 0, extent -1.27,-8.89 1.27,-6.35
3D body: height 10, standoff -3, extent -0.35,-7.97 0.35,-7.27
3D body: height 2, standoff 0, extent -1.27,-1.27 1.27,1.27
3D body: height 10, standoff -3, extent -0.35,-0.35 0.35,0.35
3D body: height 2, standoff 0, extent -1.27,-3.81 1.27,-1.27
3D body: height 10, standoff -3, extent -0.35,-2.89 0.35,-2.19
3D body: height 2, standoff 0, extent -1.27,-6.35 1.27,-3.81
3D body: height 10, standoff -3, extent -0.35,-5.43 0.35,-4.73
3D body: height 2, standoff 0, extent -1.27,-11.43 1.27,-8.89
3D body: height 10, standoff -3, extent -0.35,-10.51 0.35,-9.81
3D body: height 2, standoff 0, extent -1.27,-13.97 1.27,-11.43
3D body: height 10, standoff -3, extent -0.35,-13.05 0.35,-12.35
3D body: height 2, standoff 0, extent -1.27,-16.51 1.27,-13.97
3D body: height 10, standoff -3, extent -0.35,-15.59 0.35,-14.89
3D body: height 2, standoff 0, extent -1.27,-19.05 1.27,-16.51
3D body: height 10, standoff -3, extent -0.35,-18.13 0.35,-17.43
3D body: height 2, standoff 0, extent -1.27,-24.13 1.27,-21.59
3D body: height 10, standoff -3, extent -0.35,-23.21 0.35,-22.51
3D body: height 2, standoff 0, extent -1.27,-34.29 1.27,-31.75
3D body: height 10, standoff -3, extent -0.35,-33.37 0.35,-32.67
3D body: height 2, standoff 0, extent -1.27,-41.91 1.27,-39.37
3D body: height 10, standoff -3, extent -0.35,-40.99 0.35,-40.29
3D body: height 2, standoff 0, extent -1.27,-46.99 1.27,-44.45
3D body: height 10, standoff -3, extent -0.35,-46.07 0.35,-45.37
3D body: height 2, standoff 0, extent -1.27,-52.07 1.27,-49.53
3D body: height 10, standoff -3, extent -0.35,-51.15 0.35,-50.45
3D body: height 2, standoff 0, extent -1.27,-54.61 1.27,-52.07
3D body: height 10, standoff -3, extent -0.35,-53.69 0.35,-52.99
3D body: height 2, standoff 0, extent -1.27,-57.15 1.27,-54.61
3D body: height 10, standoff -3, extent -0.35,-56.23 0.35,-55.53
3D body: height 2, standoff 0, extent -1.27,-62.23 1.27,-59.69
3D body: height 10, standoff -3, extent -0.35,-61.31 0.35,-60.61
3D body: height 2, standoff 0, extent -1.27,-69.85 1.27,-67.31
3D body: height 10, standoff -3, extent -0.35,-68.93 0.35,-68.23
3D body: height 2, standoff 0, extent -1.27,-72.39 1.27,-69.85
3D body: height 10, standoff -3, extent -0.35,-71.47 0.35,-70.77
3D body: height 2, standoff 0, extent -1.27,-77.47 1.27,-74.93
3D body: height 10, standoff -3, extent -0.35,-76.55 0.35,-75.85
3D body: height 2, standoff 0, extent -1.27,-80.01 1.27,-77.47
3D body: height 10, standoff -3, extent -0.35,-79.09 0.35,-78.39
3D body: height 2, standoff 0, extent -1.27,-82.55 1.27,-80.01
3D body: height 10, standoff -3, extent -0.35,-81.63 0.35,-80.93
3D body: height 2, standoff 0, extent -1.27,-85.09 1.27,-82.55
3D body: height 10, standoff -3, extent -0.35,-84.17 0.35,-83.47
3D body: height 2, standoff 0, extent -1.27,-87.63 1.27,-85.09
3D body: height 10, standoff -3, extent -0.35,-86.71 0.35,-86.01
3D body: height 2, standoff 0, extent -1.27,-90.17 1.27,-87.63
3D body: height 10, standoff -3, extent -0.35,-89.25 0.35,-88.55
3D body: height 2, standoff 0, extent -1.27,-92.71 1.27,-90.17
3D body: height 10, standoff -3, extent -0.35,-91.79 0.35,-91.09
3D body: height 2, standoff 0, extent -1.27,-95.25 1.27,-92.71
3D body: height 10, standoff -3, extent -0.35,-94.33 0.35,-93.63
3D body: height 2, standoff 0, extent -1.27,-97.79 1.27,-95.25
3D body: height 10, standoff -3, extent -0.35,-96.87 0.35,-96.17
3D body: height 2, standoff 0, extent -1.27,-100.33 1.27,-97.79
3D body: height 10, standoff -3, extent -0.35,-99.41 0.35,-98.71
3D body: height 2, standoff 0, extent -1.27,-102.87 1.27,-100.33
3D body: height 10, standoff -3, extent -0.35,-101.95 0.35,-101.25
3D body: height 2, standoff 0, extent -1.27,-105.41 1.27,-102.87
3D body: height 10, standoff -3, extent -0.35,-104.49 0.35,-103.79
3D body: height 2, standoff 0, extent -1.27,-107.95 1.27,-105.41
3D body: height 10, standoff -3, extent -0.35,-107.03 0.35,-106.33
3D body: height 2, standoff 0, extent -1.27,-110.49 1.27,-107.95
3D body: height 10, standoff -3, extent -0.35,-109.57 0.35,-108.87
3D body: height 2, standoff 0, extent -1.27,-113.03 1.27,-110.49
3D body: height 10, standoff -3, extent -0.35,-112.11 0.35,-111.41
3D body: height 2, standoff 0, extent -1.27,-115.57 1.27,-113.03
3D body: height 10, standoff -3, extent -0.35,-114.65 0.35,-113.95

## HEAD_254_1X47 [mm] "Header 2.54mm 1x47"
pads (47):
  round 2 hole 1: 1(0,0) 2(0,-2.54) 3(0,-5.08) 4(0,-7.62) 5(0,-10.16) 6(0,-12.7) 7(0,-15.24) 8(0,-17.78) 9(0,-20.32) 10(0,-22.86) 11(0,-25.4) 12(0,-27.94) 13(0,-30.48) 14(0,-33.02) 15(0,-35.56) 16(0,-38.1) 17(0,-40.64) 18(0,-43.18) 19(0,-45.72) 20(0,-48.26) 21(0,-50.8) 22(0,-53.34) 23(0,-55.88) 24(0,-58.42) 25(0,-60.96) 26(0,-63.5) 27(0,-66.04) 28(0,-68.58) 29(0,-71.12) 30(0,-73.66) 31(0,-76.2) 32(0,-78.74) 33(0,-81.28) 34(0,-83.82) 35(0,-86.36) 36(0,-88.9) 37(0,-91.44) 38(0,-93.98) 39(0,-96.52) 40(0,-99.06) 41(0,-101.6) 42(0,-104.14) 43(0,-106.68) 44(0,-109.22) 45(0,-111.76) 46(0,-114.3) 47(0,-116.84)
Top Overlay:
  drawing of 330 lines, arcs and shapes, not listed
  text "1" at -0.642,2.036 h2
Bottom Overlay:
  text "1" at -0.642,1.264 h2
Top Assembly:
  drawing of 330 lines, arcs and shapes, not listed
3D body: height 10, standoff -3, extent -0.35,-117.19 0.35,-116.49
3D body: height 2, standoff 0, extent -1.27,-118.11 1.27,-115.57
3D body: height 10, standoff -3, extent -0.35,-114.65 0.35,-113.95
3D body: height 2, standoff 0, extent -1.27,-115.57 1.27,-113.03
3D body: height 10, standoff -3, extent -0.35,-112.11 0.35,-111.41
3D body: height 2, standoff 0, extent -1.27,-113.03 1.27,-110.49
3D body: height 10, standoff -3, extent -0.35,-109.57 0.35,-108.87
3D body: height 2, standoff 0, extent -1.27,-110.49 1.27,-107.95
3D body: height 10, standoff -3, extent -0.35,-107.03 0.35,-106.33
3D body: height 2, standoff 0, extent -1.27,-107.95 1.27,-105.41
3D body: height 10, standoff -3, extent -0.35,-104.49 0.35,-103.79
3D body: height 2, standoff 0, extent -1.27,-105.41 1.27,-102.87
3D body: height 10, standoff -3, extent -0.35,-101.95 0.35,-101.25
3D body: height 2, standoff 0, extent -1.27,-102.87 1.27,-100.33
3D body: height 10, standoff -3, extent -0.35,-99.41 0.35,-98.71
3D body: height 2, standoff 0, extent -1.27,-100.33 1.27,-97.79
3D body: height 10, standoff -3, extent -0.35,-96.87 0.35,-96.17
3D body: height 2, standoff 0, extent -1.27,-97.79 1.27,-95.25
3D body: height 10, standoff -3, extent -0.35,-94.33 0.35,-93.63
3D body: height 2, standoff 0, extent -1.27,-95.25 1.27,-92.71
3D body: height 10, standoff -3, extent -0.35,-91.79 0.35,-91.09
3D body: height 2, standoff 0, extent -1.27,-92.71 1.27,-90.17
3D body: height 10, standoff -3, extent -0.35,-89.25 0.35,-88.55
3D body: height 2, standoff 0, extent -1.27,-90.17 1.27,-87.63
3D body: height 10, standoff -3, extent -0.35,-86.71 0.35,-86.01
3D body: height 2, standoff 0, extent -1.27,-87.63 1.27,-85.09
3D body: height 10, standoff -3, extent -0.35,-84.17 0.35,-83.47
3D body: height 2, standoff 0, extent -1.27,-85.09 1.27,-82.55
3D body: height 10, standoff -3, extent -0.35,-81.63 0.35,-80.93
3D body: height 2, standoff 0, extent -1.27,-82.55 1.27,-80.01
3D body: height 10, standoff -3, extent -0.35,-79.09 0.35,-78.39
3D body: height 2, standoff 0, extent -1.27,-80.01 1.27,-77.47
3D body: height 10, standoff -3, extent -0.35,-76.55 0.35,-75.85
3D body: height 2, standoff 0, extent -1.27,-77.47 1.27,-74.93
3D body: height 10, standoff -3, extent -0.35,-71.47 0.35,-70.77
3D body: height 2, standoff 0, extent -1.27,-72.39 1.27,-69.85
3D body: height 10, standoff -3, extent -0.35,-68.93 0.35,-68.23
3D body: height 2, standoff 0, extent -1.27,-69.85 1.27,-67.31
3D body: height 10, standoff -3, extent -0.35,-61.31 0.35,-60.61
3D body: height 2, standoff 0, extent -1.27,-62.23 1.27,-59.69
3D body: height 10, standoff -3, extent -0.35,-56.23 0.35,-55.53
3D body: height 2, standoff 0, extent -1.27,-57.15 1.27,-54.61
3D body: height 10, standoff -3, extent -0.35,-53.69 0.35,-52.99
3D body: height 2, standoff 0, extent -1.27,-54.61 1.27,-52.07
3D body: height 10, standoff -3, extent -0.35,-51.15 0.35,-50.45
3D body: height 2, standoff 0, extent -1.27,-52.07 1.27,-49.53
3D body: height 10, standoff -3, extent -0.35,-46.07 0.35,-45.37
3D body: height 2, standoff 0, extent -1.27,-46.99 1.27,-44.45
3D body: height 10, standoff -3, extent -0.35,-40.99 0.35,-40.29
3D body: height 2, standoff 0, extent -1.27,-41.91 1.27,-39.37
3D body: height 10, standoff -3, extent -0.35,-33.37 0.35,-32.67
3D body: height 2, standoff 0, extent -1.27,-34.29 1.27,-31.75
3D body: height 10, standoff -3, extent -0.35,-23.21 0.35,-22.51
3D body: height 2, standoff 0, extent -1.27,-24.13 1.27,-21.59
3D body: height 10, standoff -3, extent -0.35,-18.13 0.35,-17.43
3D body: height 2, standoff 0, extent -1.27,-19.05 1.27,-16.51
3D body: height 10, standoff -3, extent -0.35,-15.59 0.35,-14.89
3D body: height 2, standoff 0, extent -1.27,-16.51 1.27,-13.97
3D body: height 10, standoff -3, extent -0.35,-13.05 0.35,-12.35
3D body: height 2, standoff 0, extent -1.27,-13.97 1.27,-11.43
3D body: height 10, standoff -3, extent -0.35,-10.51 0.35,-9.81
3D body: height 2, standoff 0, extent -1.27,-11.43 1.27,-8.89
3D body: height 10, standoff -3, extent -0.35,-5.43 0.35,-4.73
3D body: height 2, standoff 0, extent -1.27,-6.35 1.27,-3.81
3D body: height 10, standoff -3, extent -0.35,-2.89 0.35,-2.19
3D body: height 2, standoff 0, extent -1.27,-3.81 1.27,-1.27
3D body: height 10, standoff -3, extent -0.35,-0.35 0.35,0.35
3D body: height 2, standoff 0, extent -1.27,-1.27 1.27,1.27
3D body: height 10, standoff -3, extent -0.35,-7.97 0.35,-7.27
3D body: height 2, standoff 0, extent -1.27,-8.89 1.27,-6.35
3D body: height 10, standoff -3, extent -0.35,-20.67 0.35,-19.97
3D body: height 2, standoff 0, extent -1.27,-21.59 1.27,-19.05
3D body: height 10, standoff -3, extent -0.35,-25.75 0.35,-25.05
3D body: height 2, standoff 0, extent -1.27,-26.67 1.27,-24.13
3D body: height 10, standoff -3, extent -0.35,-28.29 0.35,-27.59
3D body: height 2, standoff 0, extent -1.27,-29.21 1.27,-26.67
3D body: height 10, standoff -3, extent -0.35,-30.83 0.35,-30.13
3D body: height 2, standoff 0, extent -1.27,-31.75 1.27,-29.21
3D body: height 10, standoff -3, extent -0.35,-35.91 0.35,-35.21
3D body: height 2, standoff 0, extent -1.27,-36.83 1.27,-34.29
3D body: height 10, standoff -3, extent -0.35,-38.45 0.35,-37.75
3D body: height 2, standoff 0, extent -1.27,-39.37 1.27,-36.83
3D body: height 10, standoff -3, extent -0.35,-43.53 0.35,-42.83
3D body: height 2, standoff 0, extent -1.27,-44.45 1.27,-41.91
3D body: height 10, standoff -3, extent -0.35,-48.61 0.35,-47.91
3D body: height 2, standoff 0, extent -1.27,-49.53 1.27,-46.99
3D body: height 10, standoff -3, extent -0.35,-58.77 0.35,-58.07
3D body: height 2, standoff 0, extent -1.27,-59.69 1.27,-57.15
3D body: height 10, standoff -3, extent -0.35,-63.85 0.35,-63.15
3D body: height 2, standoff 0, extent -1.27,-64.77 1.27,-62.23
3D body: height 10, standoff -3, extent -0.35,-66.39 0.35,-65.69
3D body: height 2, standoff 0, extent -1.27,-67.31 1.27,-64.77
3D body: height 10, standoff -3, extent -0.35,-74.01 0.35,-73.31
3D body: height 2, standoff 0, extent -1.27,-74.93 1.27,-72.39